# Altium footprint library gc9a01.PcbLib: 1 footprints
Each footprint in its own frame and in the unit in brackets; x right, y up, seen from the top. Pads: shape width x height; smd on the part's side, far side on the other; paste and mask are expansions set on the pad; w line width, h text height; cw(c..) or ccw(c..) is an arc to the next point about the centre after c.
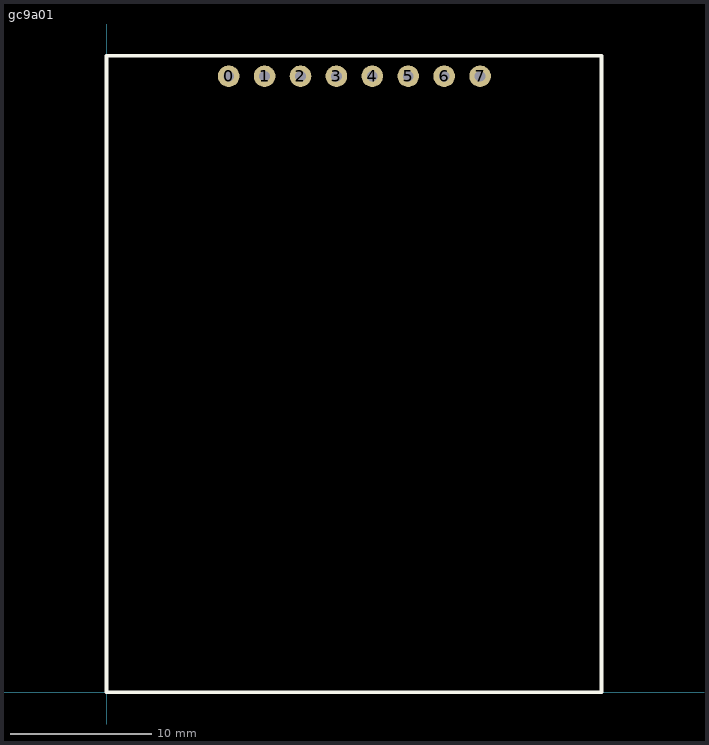
[diagram p0: the footprint, top view; thin cyan lines are the x and y axes]

## gc9a01 [mil]
pads (8):
  round 60 hole 30: 0(340,1715) 1(440,1715) 2(540,1715) 3(640,1715) 4(740,1715) 5(840,1715) 6(940,1715) 7(1040,1715)
Top Overlay:
  lines w10: 0,0 1377.95,0 1377.95,1771.65 0,1771.65 0,0